# Altium schematic symbol library TRANS.Schlib: 1 symbol
Pins are listed as number, name and electrical type; pins without a type are passive.

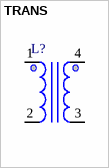
[diagram p0: symbol TRANS]

## TRANS
designator L?
Power Inductor/Transformer
pins: 1, 2, 3, 4